# Altium footprint library Misc Connector Card.PcbLib: 1 footprints
Each footprint in its own frame and in the unit in brackets; x right, y up, seen from the top. Pads: shape width x height; smd on the part's side, far side on the other; paste and mask are expansions set on the pad; w line width, h text height; cw(c..) or ccw(c..) is an arc to the next point about the centre after c.
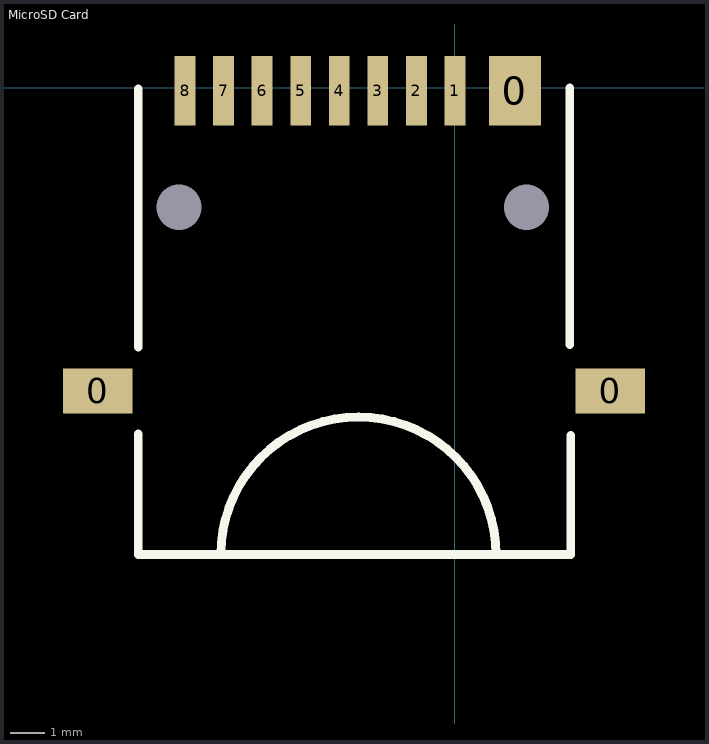
[diagram p0: the footprint, top view; thin cyan lines are the x and y axes]

## MicroSD Card [mm] "MicroSD卡卡座"
pads (13):
  rect 2x1.3 smd: 0(-10.254,-8.7) 0(4.461,-8.7)
  rrect50% 0x0 hole 1.3: 0(-7.925,-3.429) 0(2.057,-3.429)
  rect 1.5x2 smd: 0(1.727,-0.076)
  rect 0.6x2 smd: 1(0,-0.076) 2(-1.107,-0.076) 3(-2.213,-0.076) 4(-3.32,-0.076) 5(-4.427,-0.076) 6(-5.534,-0.076) 7(-6.64,-0.076) 8(-7.747,-0.076)
Top Overlay:
  lines w0.254: -9.093,-9.931 -9.093,-13.4 3.327,-13.4 3.327,-9.982 ; -9.093,-7.442 -9.093,-0.025 ; -6.722,-13.4 cw(c-2.769,-13.4) 1.184,-13.4 ; 3.302,-7.366 3.302,0